# Altium schematic symbol library SiLabs Microcontroller 8-Bit 8051.SchLib: 120 symbols (part 9 of 9)
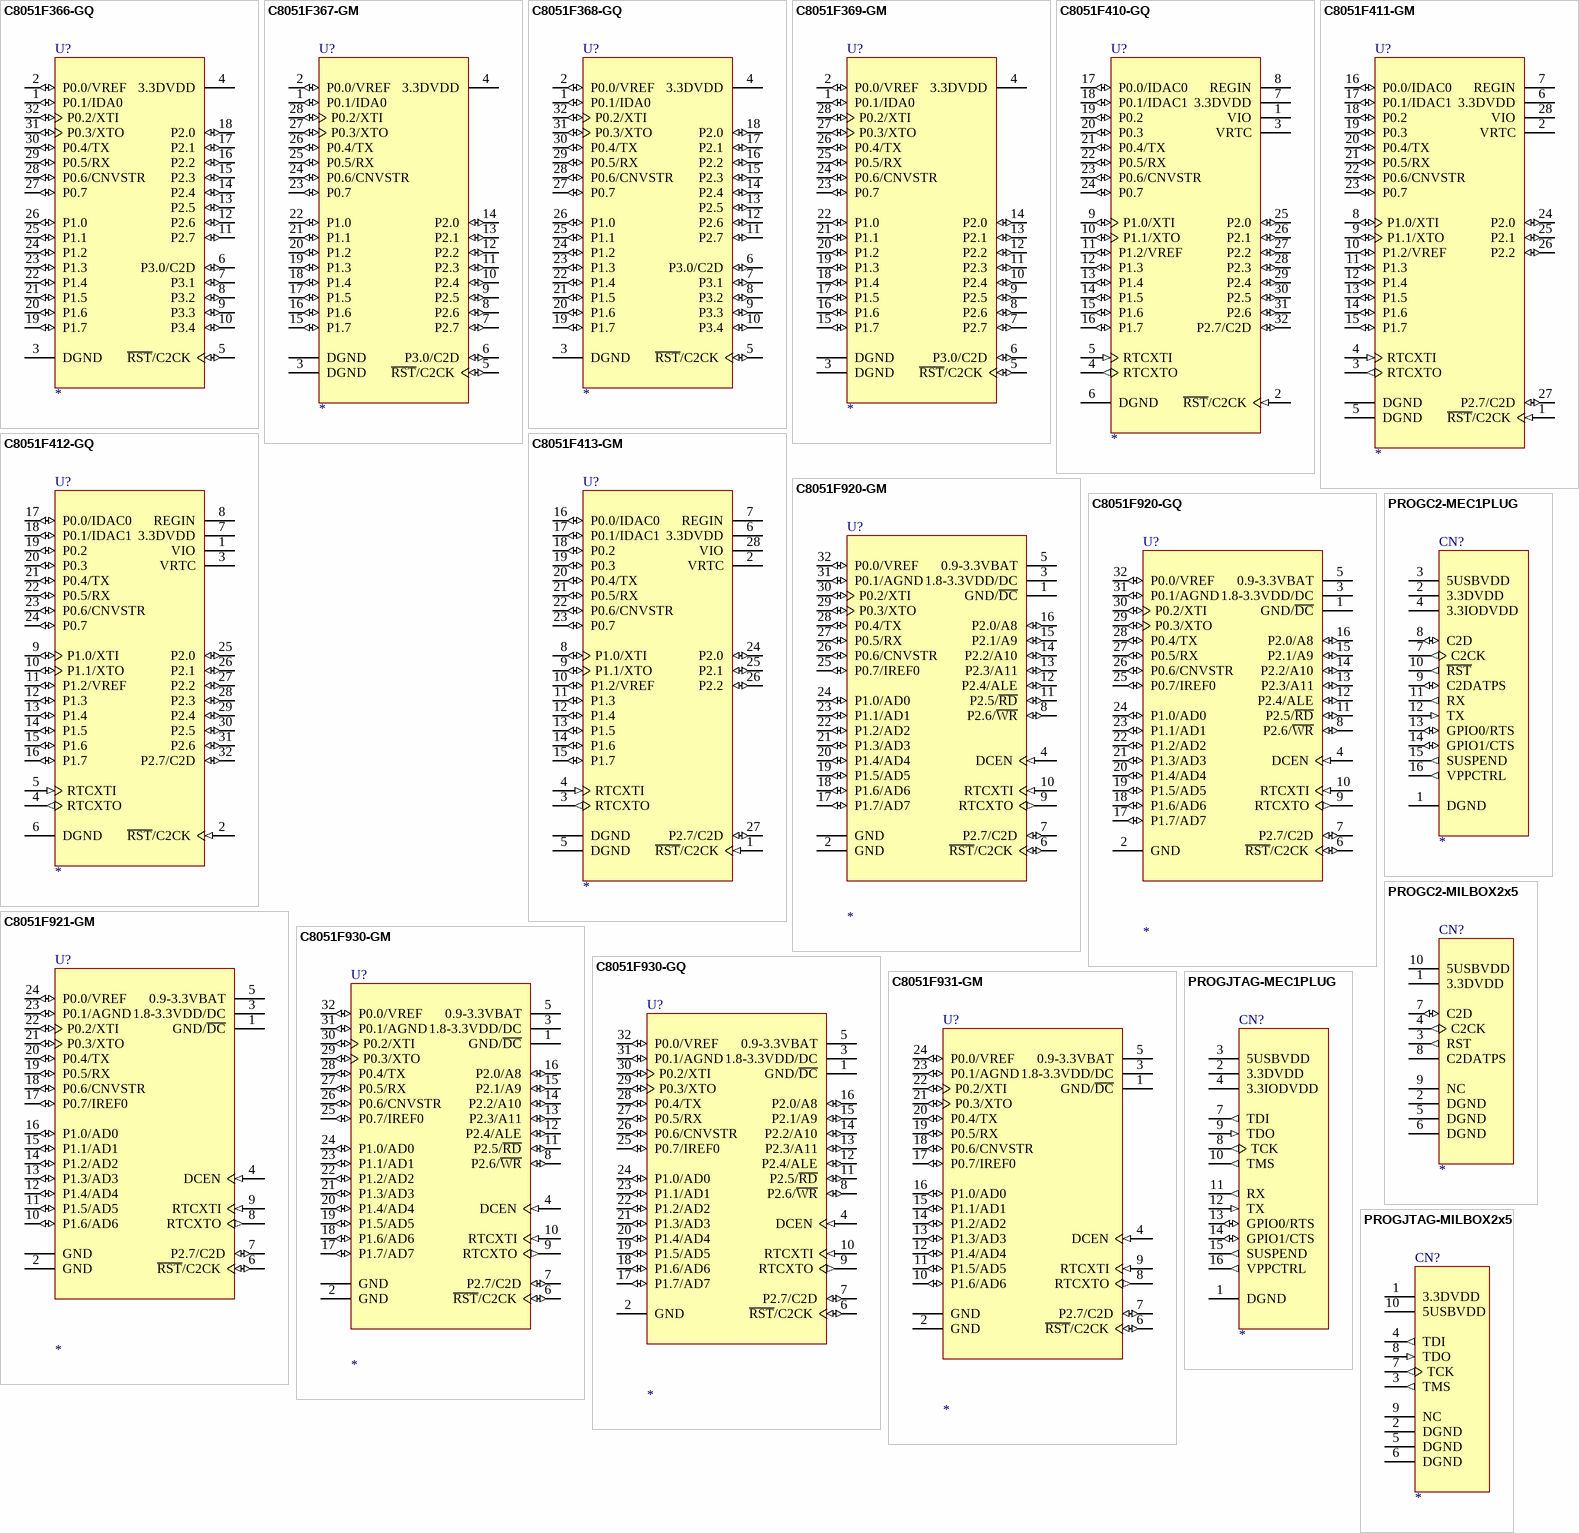
[diagram p22: symbols C8051F366-GQ to PROGJTAG-MILBOX2x5]

## C8051F920-GM
designator U?
8051 Microcontroller, 25MIPS, 32KiB Flash, 256Byte RAM + 4KiB XRAM, 24.5MHz +/-2% and 20MHz +/-10% and 40-10kHz Internal Oscillator, 4-16bit Timer, 23CH 200ksps 10bit ADC, UART, I2C, 2 SPI, CRC, RTC, PCA, 2 Comparator, LDO, DCC, 24GPIO.; Manufacture: Silicon Laboratories; Compliant: RoHS; CompliantInformationSource: Silicon Laboratries; PackageDocument: 2008-09; TempertureRange: Industrial (-40 to +85Cel); ComponentLink1Description: Manufacture Link; ComponentLink1URL: http://www.silabs.com/; ComponentLink2Description: Datasheet; ComponentLink2URL: https://www.silabs.com/Support Documents/TechnicalDocs/C8051F93x-92x.pdf; DatasheetDocument: Rev. 0.4, 2008-09; PackageReference: QFN-32; Published: 2008-04-18; Publisher: A and A System Co., Ltd.; DigiKeyPartNumber: 336-1470-ND
footprint HV-PQFN-32/W5/e0.5 (QFN-32; JEDEC MO-220-VHHD-5; Body 5.0x5.0x1.00mm; Pitch 0.5mm)
pins: 1 GND/~{DC} (power), 2 GND (power), 3 1.8-3.3VDD/DC (power), 4 DCEN (in), 5 0.9-3.3VBAT (power), 6 ~{RST}/C2CK (io), 7 P2.7/C2D (io), 8 P2.6/~{WR} (io), 9 RTCXTO (out), 10 RTCXTI (in) "Port 1.1. See Port I/O Section for a complete description. External Clock Output. This pin is the excitation driver for an external crystal or resonator, or an external clock input for CMOS, capacitor, or RC oscillator configurations. See Oscillator Sect", 11 P2.5/~{RD} (io), 12 P2.4/ALE (io), 13 P2.3/A11 (io), 14 P2.2/A10 (io), 15 P2.1/A9 (io), 16 P2.0/A8 (io), 17 P1.7/AD7 (io), 18 P1.6/AD6 (io), 19 P1.5/AD5 (io), 20 P1.4/AD4 (io), 21 P1.3/AD3 (io), 22 P1.2/AD2 (io), 23 P1.1/AD1 (io), 24 P1.0/AD0 (io), 25 P0.7/IREF0 (io), 26 P0.6/CNVSTR (io), 27 P0.5/RX (io), 28 P0.4/TX (io), 29 P0.3/XTO (io), 30 P0.2/XTI (io), 31 P0.1/AGND (io), 32 P0.0/VREF (io), TPAD GND

## C8051F920-GQ
designator U?
8051 Microcontroller, 25MIPS, 32KiB Flash, 256Byte RAM + 4KiB XRAM, 24.5MHz +/-2% and 20MHz +/-10% and 40-10kHz Internal Oscillator, 4-16bit Timer, 23CH 200ksps 10bit ADC, UART, I2C, 2 SPI, CRC, RTC, PCA, 2 Comparator, LDO, DCC, 24GPIO.; Manufacture: Silicon Laboratories; Compliant: RoHS; CompliantInformationSource: Silicon Laboratries; PackageDocument: 2008-09; TempertureRange: Industrial (-40 to +85Cel); ComponentLink1Description: Manufacture Link; ComponentLink1URL: http://www.silabs.com/; ComponentLink2Description: Datasheet; ComponentLink2URL: https://www.silabs.com/Support Documents/TechnicalDocs/C8051F93x-92x.pdf; DatasheetDocument: Rev. 0.4, 2008-09; PackageReference: LQFP-32; Published: 2008-04-18; Publisher: A and A System Co., Ltd.; DigiKeyPartNumber: 336-1469-ND
footprint LQFP-32/e0.8 (LQFP-32; Body Width 10mm; Pitch 0.8mm)
pins: 1 GND/~{DC} (power), 2 GND (power), 3 1.8-3.3VDD/DC (power), 4 DCEN (in), 5 0.9-3.3VBAT (power), 6 ~{RST}/C2CK (io), 7 P2.7/C2D (io), 8 P2.6/~{WR} (io), 9 RTCXTO (out), 10 RTCXTI (in) "Port 1.1. See Port I/O Section for a complete description. External Clock Output. This pin is the excitation driver for an external crystal or resonator, or an external clock input for CMOS, capacitor, or RC oscillator configurations. See Oscillator Sect", 11 P2.5/~{RD} (io), 12 P2.4/ALE (io), 13 P2.3/A11 (io), 14 P2.2/A10 (io), 15 P2.1/A9 (io), 16 P2.0/A8 (io), 17 P1.7/AD7 (io), 18 P1.6/AD6 (io), 19 P1.5/AD5 (io), 20 P1.4/AD4 (io), 21 P1.3/AD3 (io), 22 P1.2/AD2 (io), 23 P1.1/AD1 (io), 24 P1.0/AD0 (io), 25 P0.7/IREF0 (io), 26 P0.6/CNVSTR (io), 27 P0.5/RX (io), 28 P0.4/TX (io), 29 P0.3/XTO (io), 30 P0.2/XTI (io), 31 P0.1/AGND (io), 32 P0.0/VREF (io)

## C8051F921-GM
designator U?
8051 Microcontroller, 25MIPS, 32KiB Flash, 256Byte RAM + 4KiB XRAM, 24.5MHz +/-2% and 20MHz +/-10% and 40-10kHz Internal Oscillator, 4-16bit Timer, 16CH 200ksps 10bit ADC, UART, I2C, 2 SPI, CRC, RTC, PCA, 2 Comparator, LDO, DCC, 16GPIO.; Manufacture: Silicon Laboratories; Compliant: RoHS; CompliantInformationSource: Silicon Laboratries; PackageDocument: 2008-09; TempertureRange: Industrial (-40 to +85Cel); ComponentLink1Description: Manufacture Link; ComponentLink1URL: http://www.silabs.com/; ComponentLink2Description: Datasheet; ComponentLink2URL: https://www.silabs.com/Support Documents/TechnicalDocs/C8051F93x-92x.pdf; DatasheetDocument: Rev. 0.4, 2008-09; PackageReference: QFN-24; Published: 2008-04-18; Publisher: A and A System Co., Ltd.; DigiKeyPartNumber: 336-1471-ND
footprint HV-PQFN-24/W4/e0.5 (QFN-24; JEDEC MO-220-VGGD-6; Body 4.00x4.00x1.00mm; Pitch 0.5mm;)
pins: 1 GND/~{DC} (power), 2 GND (power), 3 1.8-3.3VDD/DC (power), 4 DCEN (in), 5 0.9-3.3VBAT (power), 6 ~{RST}/C2CK (io), 7 P2.7/C2D (io), 8 RTCXTO (out), 9 RTCXTI (in) "Port 1.1. See Port I/O Section for a complete description. External Clock Output. This pin is the excitation driver for an external crystal or resonator, or an external clock input for CMOS, capacitor, or RC oscillator configurations. See Oscillator Sect", 10 P1.6/AD6 (io), 11 P1.5/AD5 (io), 12 P1.4/AD4 (io), 13 P1.3/AD3 (io), 14 P1.2/AD2 (io), 15 P1.1/AD1 (io), 16 P1.0/AD0 (io), 17 P0.7/IREF0 (io), 18 P0.6/CNVSTR (io), 19 P0.5/RX (io), 20 P0.4/TX (io), 21 P0.3/XTO (io), 22 P0.2/XTI (io), 23 P0.1/AGND (io), 24 P0.0/VREF (io), TPAD GND

## C8051F930-GM
designator U?
8051 Microcontroller, 25MIPS, 64KiB Flash, 256Byte RAM + 4KiB XRAM, 24.5MHz +/-2% and 20MHz +/-10% and 40-10kHz Internal Oscillator, 4-16bit Timer, 23CH 200ksps 10bit ADC, UART, I2C, 2 SPI, CRC, RTC, PCA, 2 Comparator, LDO, DCC, 24GPIO.; Manufacture: Silicon Laboratories; Compliant: RoHS; CompliantInformationSource: Silicon Laboratries; PackageDocument: 2008-09; TempertureRange: Industrial (-40 to +85Cel); ComponentLink1Description: Manufacture Link; ComponentLink1URL: http://www.silabs.com/; ComponentLink2Description: Datasheet; ComponentLink2URL: https://www.silabs.com/Support Documents/TechnicalDocs/C8051F93x-92x.pdf; DatasheetDocument: Rev. 0.4, 2008-09; PackageReference: QFN-32; Published: 2008-04-18; Publisher: A and A System Co., Ltd.; DigiKeyPartNumber: 336-1467-ND
footprint HV-PQFN-32/W5/e0.5 (QFN-32; JEDEC MO-220-VHHD-5; Body 5.0x5.0x1.00mm; Pitch 0.5mm)
pins: 1 GND/~{DC} (power), 2 GND (power), 3 1.8-3.3VDD/DC (power), 4 DCEN (in), 5 0.9-3.3VBAT (power), 6 ~{RST}/C2CK (io), 7 P2.7/C2D (io), 8 P2.6/~{WR} (io), 9 RTCXTO (out), 10 RTCXTI (in) "Port 1.1. See Port I/O Section for a complete description. External Clock Output. This pin is the excitation driver for an external crystal or resonator, or an external clock input for CMOS, capacitor, or RC oscillator configurations. See Oscillator Sect", 11 P2.5/~{RD} (io), 12 P2.4/ALE (io), 13 P2.3/A11 (io), 14 P2.2/A10 (io), 15 P2.1/A9 (io), 16 P2.0/A8 (io), 17 P1.7/AD7 (io), 18 P1.6/AD6 (io), 19 P1.5/AD5 (io), 20 P1.4/AD4 (io), 21 P1.3/AD3 (io), 22 P1.2/AD2 (io), 23 P1.1/AD1 (io), 24 P1.0/AD0 (io), 25 P0.7/IREF0 (io), 26 P0.6/CNVSTR (io), 27 P0.5/RX (io), 28 P0.4/TX (io), 29 P0.3/XTO (io), 30 P0.2/XTI (io), 31 P0.1/AGND (io), 32 P0.0/VREF (io), TPAD GND

## C8051F930-GQ
designator U?
8051 Microcontroller, 25MIPS, 64KiB Flash, 256Byte RAM + 4KiB XRAM, 24.5MHz +/-2% and 20MHz +/-10% and 40-10kHz Internal Oscillator, 4-16bit Timer, 23CH 200ksps 10bit ADC, UART, I2C, 2 SPI, CRC, RTC, PCA, 2 Comparator, LDO, DCC, 24GPIO.; Manufacture: Silicon Laboratories; Compliant: RoHS; CompliantInformationSource: Silicon Laboratries; PackageDocument: 2008-09; TempertureRange: Industrial (-40 to +85Cel); ComponentLink1Description: Manufacture Link; ComponentLink1URL: http://www.silabs.com/; ComponentLink2Description: Datasheet; ComponentLink2URL: https://www.silabs.com/Support Documents/TechnicalDocs/C8051F93x-92x.pdf; DatasheetDocument: Rev. 0.4, 2008-09; PackageReference: LQFP-32; Published: 2008-04-18; Publisher: A and A System Co., Ltd.; DigiKeyPartNumber: 336-1466-ND
footprint LQFP-32/e0.8 (LQFP-32; Body Width 10mm; Pitch 0.8mm)
pins: 1 GND/~{DC} (power), 2 GND (power), 3 1.8-3.3VDD/DC (power), 4 DCEN (in), 5 0.9-3.3VBAT (power), 6 ~{RST}/C2CK (io), 7 P2.7/C2D (io), 8 P2.6/~{WR} (io), 9 RTCXTO (out), 10 RTCXTI (in) "Port 1.1. See Port I/O Section for a complete description. External Clock Output. This pin is the excitation driver for an external crystal or resonator, or an external clock input for CMOS, capacitor, or RC oscillator configurations. See Oscillator Sect", 11 P2.5/~{RD} (io), 12 P2.4/ALE (io), 13 P2.3/A11 (io), 14 P2.2/A10 (io), 15 P2.1/A9 (io), 16 P2.0/A8 (io), 17 P1.7/AD7 (io), 18 P1.6/AD6 (io), 19 P1.5/AD5 (io), 20 P1.4/AD4 (io), 21 P1.3/AD3 (io), 22 P1.2/AD2 (io), 23 P1.1/AD1 (io), 24 P1.0/AD0 (io), 25 P0.7/IREF0 (io), 26 P0.6/CNVSTR (io), 27 P0.5/RX (io), 28 P0.4/TX (io), 29 P0.3/XTO (io), 30 P0.2/XTI (io), 31 P0.1/AGND (io), 32 P0.0/VREF (io)

## C8051F931-GM
designator U?
8051 Microcontroller, 25MIPS, 64KiB Flash, 256Byte RAM + 4KiB XRAM, 24.5MHz +/-2% and 20MHz +/-10% and 40-10kHz Internal Oscillator, 4-16bit Timer, 16CH 200ksps 10bit ADC, UART, I2C, 2 SPI, CRC, RTC, PCA, 2 Comparator, LDO, DCC, 16GPIO.; Manufacture: Silicon Laboratories; Compliant: RoHS; CompliantInformationSource: Silicon Laboratries; PackageDocument: 2008-09; TempertureRange: Industrial (-40 to +85Cel); ComponentLink1Description: Manufacture Link; ComponentLink1URL: http://www.silabs.com/; ComponentLink2Description: Datasheet; ComponentLink2URL: https://www.silabs.com/Support Documents/TechnicalDocs/C8051F93x-92x.pdf; DatasheetDocument: Rev. 0.4, 2008-09; PackageReference: QFN-24; Published: 2008-04-18; Publisher: A and A System Co., Ltd.; DigiKeyPartNumber: 336-1468-ND
footprint HV-PQFN-24/W4/e0.5 (QFN-24; JEDEC MO-220-VGGD-6; Body 4.00x4.00x1.00mm; Pitch 0.5mm;)
pins: 1 GND/~{DC} (power), 2 GND (power), 3 1.8-3.3VDD/DC (power), 4 DCEN (in), 5 0.9-3.3VBAT (power), 6 ~{RST}/C2CK (io), 7 P2.7/C2D (io), 8 RTCXTO (out), 9 RTCXTI (in) "Port 1.1. See Port I/O Section for a complete description. External Clock Output. This pin is the excitation driver for an external crystal or resonator, or an external clock input for CMOS, capacitor, or RC oscillator configurations. See Oscillator Sect", 10 P1.6/AD6 (io), 11 P1.5/AD5 (io), 12 P1.4/AD4 (io), 13 P1.3/AD3 (io), 14 P1.2/AD2 (io), 15 P1.1/AD1 (io), 16 P1.0/AD0 (io), 17 P0.7/IREF0 (io), 18 P0.6/CNVSTR (io), 19 P0.5/RX (io), 20 P0.4/TX (io), 21 P0.3/XTO (io), 22 P0.2/XTI (io), 23 P0.1/AGND (io), 24 P0.0/VREF (io), TPAD GND

## PROGC2-MEC1PLUG
designator CN?
SiLabs C2 Programming Connector, PLUG.
footprint SiLabs/MEC1-108-02-X-D-EM2-Plug (Samtec MEC1 Series; Technology PCB Edge; Body 22.45x13.36x6.81mm; Pitch 1.00mm;)
pins: 1 DGND, 2 3.3DVDD (power), 3 5USBVDD (power), 4 3.3IODVDD (power), 7 C2CK (out), 8 C2D (io), 9 C2DATPS (io), 10 ~{RST} (out), 11 RX (out), 12 TX (in), 13 GPIO0/RTS (io), 14 GPIO1/CTS (io), 15 SUSPEND (out), 16 VPPCTRL (out)

## PROGC2-MILBOX2x5
designator CN?
SiLabs C2 Programming Connector, MILBOX2x5.
footprint MILBOX2x5 (Generic Connector 2x5; Pitch 100mil)
pins: 1 3.3DVDD (power), 2 DGND (power), 3 RST (out), 4 C2CK (out), 5 DGND (power), 6 DGND (power), 7 C2D (io), 8 C2DATPS, 9 NC, 10 5USBVDD

## PROGJTAG-MEC1PLUG
designator CN?
SiLabs C2 Programming Connector, PLUG.
footprint SiLabs/MEC1-108-02-X-D-EM2-Plug (Samtec MEC1 Series; Technology PCB Edge; Body 22.45x13.36x6.81mm; Pitch 1.00mm;)
pins: 1 DGND, 2 3.3DVDD (power), 3 5USBVDD (power), 4 3.3IODVDD (power), 7 TDI (out), 8 TCK (out), 9 TDO (in), 10 TMS (out), 11 RX (out), 12 TX (in), 13 GPIO0/RTS (io), 14 GPIO1/CTS (io), 15 SUSPEND (out), 16 VPPCTRL (out)

## PROGJTAG-MILBOX2x5
designator CN?
SiLabs JTAG Programming Connector, MILBOX2x5.
footprint MILBOX2x5 (Generic Connector 2x5; Pitch 100mil)
pins: 1 3.3DVDD (power), 2 DGND (power), 3 TMS (out), 4 TDI (out), 5 DGND (power), 6 DGND (power), 7 TCK (out), 8 TDO (in), 9 NC, 10 5USBVDD (power)